# Altium footprint library PCB_2.PcbLib: 21 footprints (part 1 of 2)
Each footprint in its own frame and in the unit in brackets; x right, y up, seen from the top. Pads: shape width x height; smd on the part's side, far side on the other; paste and mask are expansions set on the pad; w line width, h text height; cw(c..) or ccw(c..) is an arc to the next point about the centre after c.
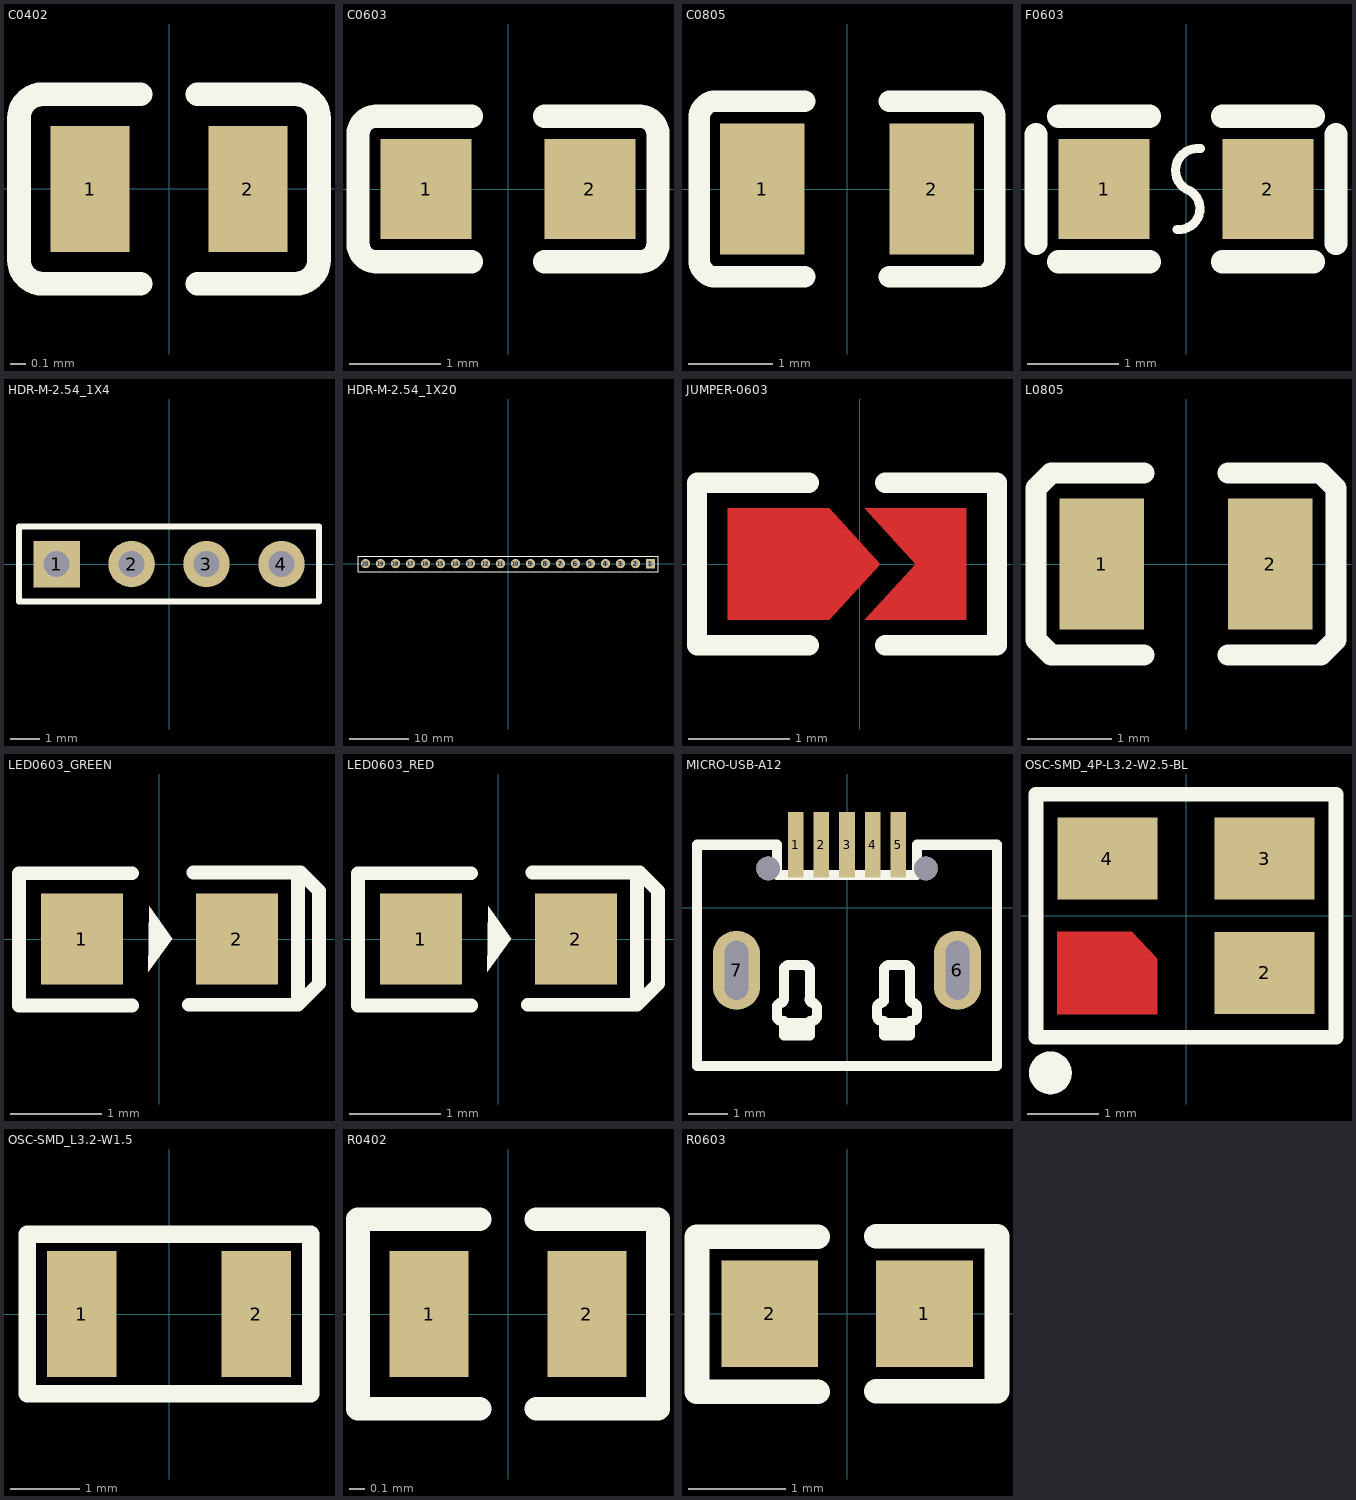
[diagram p0: the footprints below, top view; thin cyan lines are the x and y axes]

## C0402 [mm]
pads (2):
  rect 0.5x0.8 smd: 1(-0.5,0) 2(0.5,0)
Top Overlay:
  lines w0.15: -0.18,-0.6 -0.8,-0.6 cw(c-0.8,-0.45) -0.95,-0.45 -0.95,-0.4 -0.95,0.4 -0.95,0.45 cw(c-0.8,0.45) -0.8,0.6 -0.18,0.6 ; 0.18,-0.6 0.8,-0.6 ccw(c0.8,-0.45) 0.95,-0.45 0.95,-0.4 0.95,0.4 0.95,0.45 ccw(c0.8,0.45) 0.8,0.6 0.18,0.6

## C0603 [mm]
pads (2):
  rect 1x1.1 smd: 1(-0.9,0) 2(0.9,0)
Top Overlay:
  lines w0.254: -0.4,-0.8 -1.4,-0.8 -1.45,-0.8 cw(c-1.45,-0.6) -1.65,-0.6 -1.65,0.6 cw(c-1.45,0.6) -1.45,0.8 -1.4,0.8 -0.4,0.8 ; 0.4,-0.8 1.4,-0.8 1.45,-0.8 ccw(c1.45,-0.6) 1.65,-0.6 1.65,0.6 ccw(c1.45,0.6) 1.45,0.8 1.4,0.8 0.4,0.8

## C0805 [mm]
pads (2):
  rect 1x1.55 smd: 1(-1,0) 2(1,0)
Top Overlay:
  lines w0.254: -1.75,0.82 -1.75,0.8 ; -0.5,-1.04 -1.55,-1.04 cw(c-1.55,-0.84) -1.75,-0.84 -1.75,-0.8 -1.75,0.8 ; -0.5,1.04 -1.55,1.04 ccw(c-1.55,0.84) -1.75,0.84 -1.75,0.8 ; 0.5,-1.04 1.55,-1.04 ccw(c1.55,-0.84) 1.75,-0.84 1.75,-0.8 1.75,0.8 1.75,0.84 ccw(c1.55,0.84) 1.55,1.04 0.5,1.04

## F0603 [mm]
pads (2):
  rect 1x1.1 smd: 1(-0.9,0) 2(0.9,0)
Top Overlay:
  lines w0.1: -0.096,-0.444 ccw(c-0.076,-0.216) 0,0 ; -0.001,0 cw(c0.126,0.205) 0.158,0.444
  lines w0.254: -1.65,-0.6 -1.65,0.6 ; -1.4,-0.8 -0.4,-0.8 ; -1.4,0.8 -0.4,0.8 ; 0.4,-0.8 1.4,-0.8 ; 0.4,0.8 1.4,0.8 ; 1.65,-0.6 1.65,0.6

## HDR-M-2.54_1X4 [mil]
pads (4):
  rect 62x62 hole 35: 1(-150,0)
  round 62 hole 35: 2(-50,0) 3(50,0) 4(150,0)
Top Overlay:
  lines w7.99: -125,50 200,50
  lines w8: -125,50 -200,50 -200,-50 200,-50 200,50

## HDR-M-2.54_1X20 [mil]
pads (20):
  rect 62x62 hole 35: 1(950,0)
  round 62 hole 35: 2(850,0) 3(750,0) 4(650,0) 5(550,0) 6(450,0) 7(350,0) 8(250,0) 9(150,0) 10(50,0) 11(-50,0) 12(-150,0) 13(-250,0) 14(-350,0) 15(-450,0) 16(-550,0) 17(-650,0) 18(-750,0) 19(-850,0) 20(-950,0)
Top Overlay:
  lines w8: -1000,-55 -1000,-50 -1000,50 1000,50 1000,-55 -1000,-55

## JUMPER-0603 [mm]
Top Layer:
  region: 1.05,-0.55 0.05,-0.55 0.55,0 0.05,0.55 1.05,0.55
  region: -0.3,-0.55 -1.3,-0.55 -1.3,0.55 -0.3,0.55 0.2,0
Top Overlay:
  lines w0.2: -0.5,-0.8 -1.6,-0.8 -1.6,0.8 -0.5,0.8 ; 0.25,-0.8 1.35,-0.8 1.35,0.2 1.35,0.8 0.25,0.8
Top Paste:
  region: 1.05,-0.55 0.05,-0.55 0.55,0 0.05,0.55 1.05,0.55
  region: -0.3,-0.55 -1.3,-0.55 -1.3,0.55 -0.3,0.55 0.2,0
Top Solder:
  region: 1.05,-0.55 0.05,-0.55 0.55,0 0.05,0.55 1.05,0.55
  region: -0.3,-0.55 -1.3,-0.55 -1.3,0.55 -0.3,0.55 0.2,0

## L0805 [mm]
pads (2):
  rect 1x1.55 smd: 1(-1,0) 2(1,0)
Top Overlay:
  lines w0.254: -0.5,-1.08 -1.55,-1.08 -1.6,-1.08 -1.78,-0.9 -1.78,0.9 -1.6,1.08 -1.55,1.08 -0.5,1.08 ; 0.5,-1.08 1.55,-1.08 1.6,-1.08 1.78,-0.9 1.78,0.9 1.6,1.08 1.55,1.08 0.5,1.08

## LED0603_GREEN [mm]
pads (2):
  rect 0.9x1 smd: 1(-0.85,0) 2(0.85,0)
Top Overlay:
  region: -0.11,0.36 -0.12,-0.36 0.14,0
  lines w0.15: -0.3,-0.73 -1.54,-0.73 -1.54,0.72 -0.3,0.72 ; 0.32,-0.72 1.52,-0.72 ; 0.37,0.73 1.52,0.73 ; 1.52,-0.72 1.52,0.73 ; 1.52,-0.72 1.72,-0.52 1.75,-0.49 1.75,0.53 1.55,0.73 1.52,0.73

## LED0603_RED [mm]
pads (2):
  rect 0.9x1 smd: 1(-0.85,0) 2(0.85,0)
Top Overlay:
  region: -0.11,0.36 -0.12,-0.36 0.14,0
  lines w0.15: -0.3,-0.73 -1.54,-0.73 -1.54,0.72 -0.3,0.72 ; 0.32,-0.72 1.52,-0.72 ; 0.37,0.73 1.52,0.73 ; 1.52,-0.72 1.52,0.73 ; 1.52,-0.72 1.72,-0.52 1.75,-0.49 1.75,0.53 1.55,0.73 1.52,0.73

## MICRO-USB-A12 [mm]
pads (9):
  rect 0.4x1.65 smd: 1(-1.3,1.59) 2(-0.65,1.59) 3(0,1.59) 4(0.65,1.59) 5(1.3,1.59)
  oval 1.2x2 hole 0.6 slot 1.5 at 90 deg: 6(2.799,-1.59) 7(-2.799,-1.59)
  round 0.6 hole 0.6 unplated: ""(-1.999,0.991) ""(1.999,0.991)
Top Overlay:
  lines w0.254: -1.778,-2.779 -1.778,-2.525 ; -1.775,-2.519 cw(c-1.675,-2.519) -1.675,-2.419 ; -1.773,-2.768 ccw(c-1.673,-2.768) -1.673,-2.868 ; -1.685,-2.418 ccw(c-1.698,-2.319) -1.598,-2.319 ; -1.676,-2.88 -1.6,-2.88 -1.6,-2.931 ; -1.6,-2.322 -1.6,-1.56 ; -1.598,-1.568 cw(c-1.498,-1.568) -1.498,-1.468 ; -1.499,-1.458 -1.041,-1.458 ; -1.048,-1.468 cw(c-1.048,-1.568) -0.948,-1.568 ; -0.948,-2.319 ccw(c-0.848,-2.319) -0.86,-2.419 ; -0.94,-2.322 -0.94,-1.56 ; -0.874,-2.419 cw(c-0.874,-2.519) -0.774,-2.519 ; -0.872,-2.867 ccw(c-0.872,-2.767) -0.772,-2.767 ; -0.864,-2.88 -0.94,-2.88 -0.94,-2.931 ; -0.762,-2.779 -0.762,-2.525 ; 0.762,-2.779 0.762,-2.525 ; 0.765,-2.519 cw(c0.865,-2.519) 0.865,-2.419 ; 0.767,-2.768 ccw(c0.867,-2.768) 0.867,-2.868 ; 0.855,-2.418 ccw(c0.842,-2.319) 0.942,-2.319 ; 0.864,-2.88 0.94,-2.88 0.94,-2.931 ; 0.94,-2.322 0.94,-1.56 ; 0.942,-1.568 cw(c1.042,-1.568) 1.042,-1.468 ; 1.041,-1.458 1.499,-1.458 ; 1.492,-1.468 cw(c1.492,-1.568) 1.592,-1.568 ; 1.592,-2.319 ccw(c1.692,-2.319) 1.68,-2.419 ; 1.6,-2.322 1.6,-1.56 ; 1.666,-2.419 cw(c1.666,-2.519) 1.766,-2.519 ; 1.668,-2.867 ccw(c1.668,-2.767) 1.768,-2.767 ; 1.676,-2.88 1.6,-2.88 1.6,-2.931 ; 1.778,-2.779 1.778,-2.525 ; -1.6,-3.007 -0.94,-3.007 ; -1.6,-3.007 -1.6,-3.236 -0.94,-3.236 -0.94,-3.007 ; -1.6,-3.007 -1.6,-2.931 ; -1.6,-2.931 -0.94,-2.931 ; -0.94,-3.007 -0.94,-2.931 ; 0.94,-3.007 1.6,-3.007 ; 0.94,-3.007 0.94,-3.236 1.6,-3.236 1.6,-3.007 ; 0.94,-3.007 0.94,-2.931 ; 0.94,-2.931 1.6,-2.931 ; 1.6,-3.007 1.6,-2.931 ; -3.8,-4.01 -3.8,1.59 -1.778,1.59 -1.778,0.828 1.778,0.828 1.778,1.59 3.8,1.59 3.8,-4.01 -3.8,-4.01

## MSOP-10_L3.0-W3.0-P0.50-LS5.0-BL [mm]

## OSC-SMD_4P-L3.2-W2.5-BL [mm]
pads (3):
  rect 1.4x1.15 smd: 2(1.1,-0.8) 3(1.1,0.8) 4(-1.1,0.8)
Top Layer:
  region: -1.8,-0.225 -0.762,-0.225 -0.4,-0.604 -0.4,-1.375 -1.8,-1.375
Top Overlay:
  lines w0.203: -2.1,-1.7 -2.1,1.7 2.1,1.7 2.1,-1.7 -2.1,-1.7
  lines w0.3: -1.9,-2.05 ccw(c-1.899,-2.2) -1.897,-2.05
Top Paste:
  region: -1.8,-0.225 -0.762,-0.225 -0.4,-0.604 -0.4,-1.375 -1.8,-1.375
Top Solder:
  region: -1.8,-0.225 -0.762,-0.225 -0.4,-0.604 -0.4,-1.375 -1.8,-1.375

## OSC-SMD_L3.2-W1.5 [mm]
pads (2):
  rect 1x1.8 smd: 1(-1.25,0) 2(1.25,0)
Top Overlay:
  lines w0.254: -2.032,-1.143 2.032,-1.143 2.032,1.143 -2.032,1.143 -2.032,-1.143

## R0402 [mm]
pads (2):
  rect 0.5x0.8 smd: 1(-0.5,0) 2(0.5,0)
Top Overlay:
  lines w0.15: -0.18,-0.6 -0.95,-0.6 -0.95,0.6 -0.18,0.6 ; 0.18,-0.6 0.95,-0.6 0.95,0.6 0.18,0.6

## R0603 [mm]
pads (2):
  rect 1x1.1 smd: 1(0.8,0) 2(-0.8,0)
Top Overlay:
  lines w0.254: -0.301,-0.805 -1.551,-0.805 -1.551,0.795 -0.301,0.795 ; 0.3,-0.8 1.55,-0.8 1.55,0.8 0.3,0.8